# Altium integrated library OPA1641AID.IntLib: 1 symbol
Pins are listed as number, name and electrical type; pins without a type are passive.

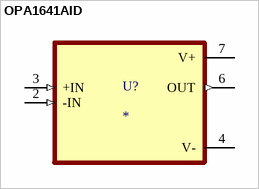
[diagram p0: symbol OPA1641AID]

## OPA1641AID
designator U?
Single Sound-Plus High-Performance, JFET-Input Audio OpAmps 8-SOIC -40 to 85; MP: OPA1641AID; MF: Texas Instruments; Package: SOIC-8 Texas Instruments; Purchase-URL: https://pricing.snapeda.com/search/part/OPA1641AID/?ref=eda; Check_prices: https://www.snapeda.com/parts/OPA1641AID/Texas%20Instruments/view-part/1237742/?ref=eda; Digi-Key_Part_Number: 296-48624-2-ND; Value: *; SnapEDA_Link: https://www.snapeda.com/parts/OPA1641AID/Texas%20Instruments/view-part/1237742/?ref=snap
footprint SOIC127P599X175-8N
pins: 2 -IN (in), 3 +IN (in), 4 V- (power), 6 OUT (out), 7 V+ (power)